# Altium footprint library SKALE_LIB.PcbLib: 52 footprints (part 1 of 4)
Each footprint in its own frame and in the unit in brackets; x right, y up, seen from the top. Pads: shape width x height; smd on the part's side, far side on the other; paste and mask are expansions set on the pad; w line width, h text height; cw(c..) or ccw(c..) is an arc to the next point about the centre after c.
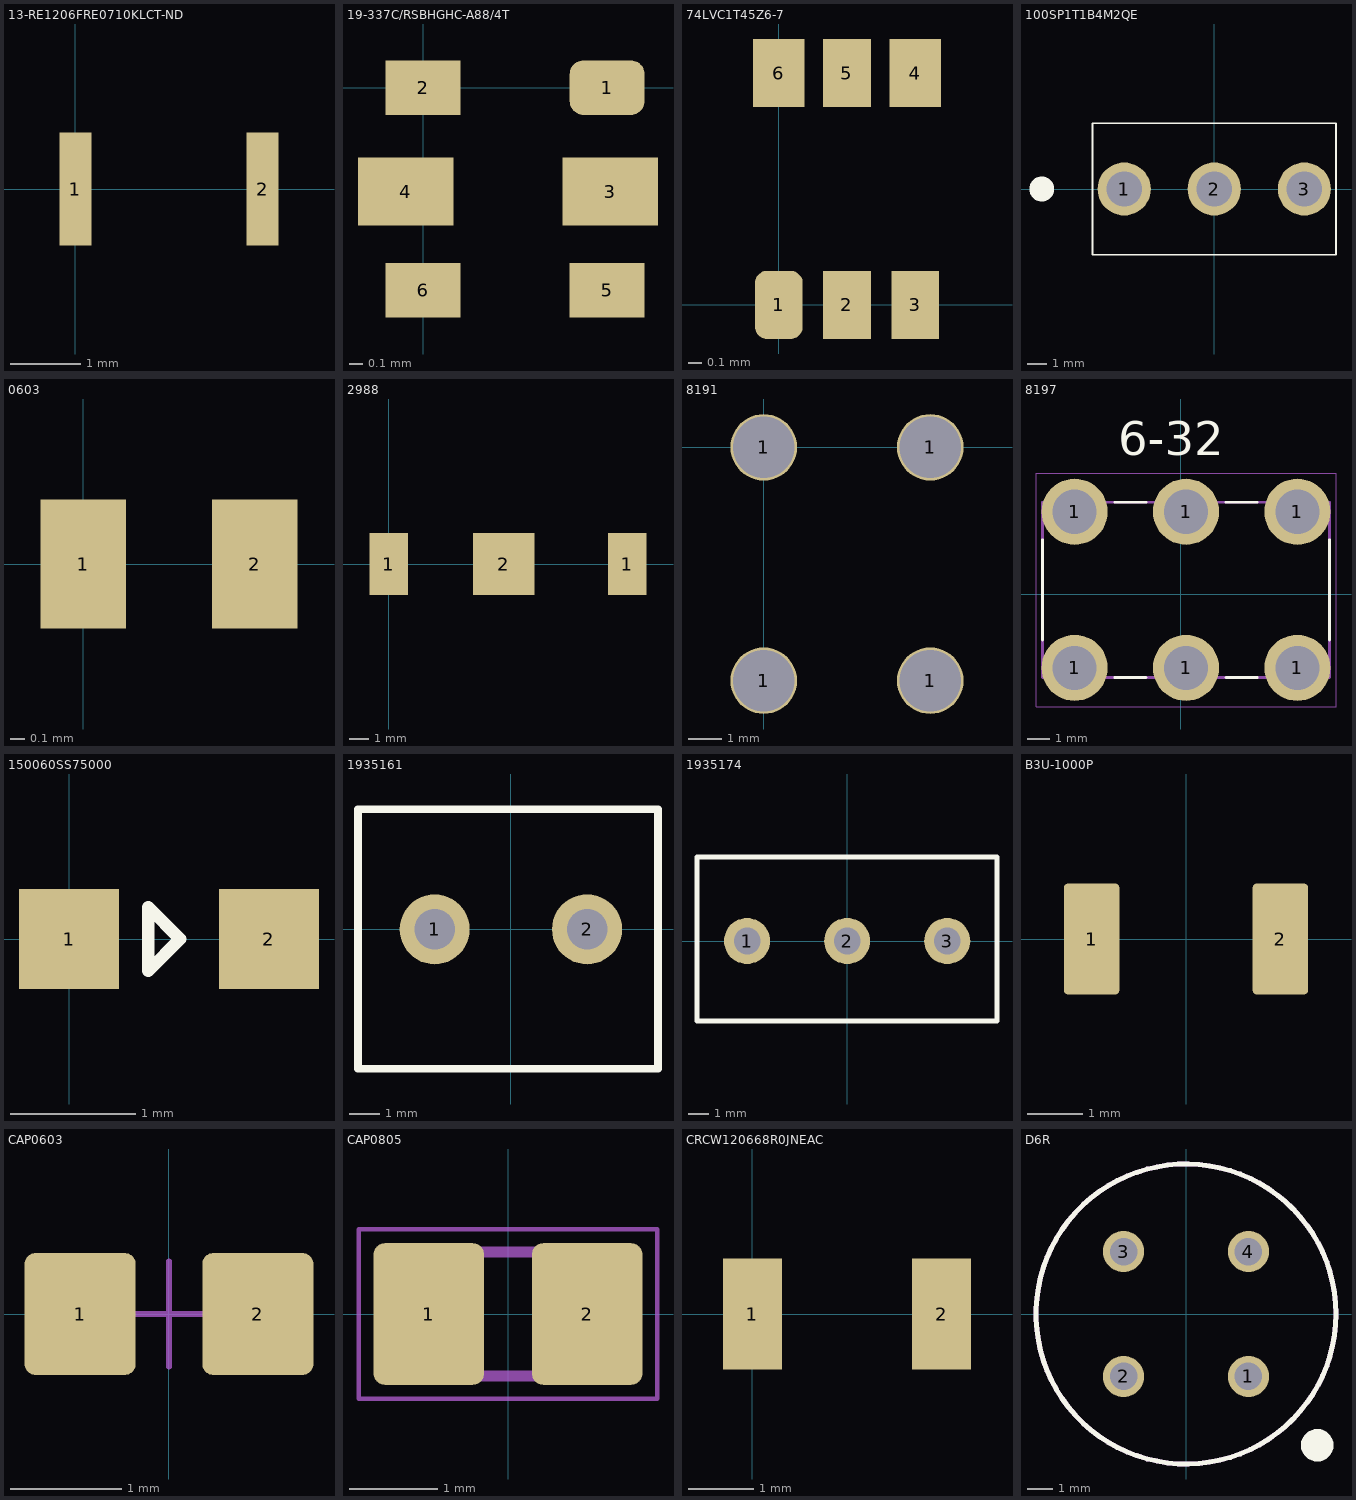
[diagram p0: the footprints below, top view; thin cyan lines are the x and y axes]

## 13-RE1206FRE0710KLCT-ND [mm]
pads (2):
  rect 0.45x1.6 smd: 1(0,0) 2(2.65,0)
3D body "RE1206FRE0710KL.STEP": height 0.65, standoff 0, extent -0.153,-0.8 2.947,0.8

## 19-337C/RSBHGHC-A88/4T [mm]
pads (6):
  rrect50% 0.55x0.4 smd: 1(1.35,0)
  rect 0.55x0.4 smd: 2(0,0) 5(1.35,-1.487) 6(0,-1.487)
  rect 0.7x0.5 smd: 3(1.373,-0.762) 4(-0.127,-0.762)
3D body "4T--3DModel-STEP-56544.STEP": height 0.5, standoff 0, extent -0.127,-1.558 1.473,0.042

## 74LVC1T45Z6-7 [mm]
pads (6):
  rrect50% 0.35x0.5 smd: 1(0,0)
  rect 0.35x0.5 smd: 2(0.5,0) 3(1,0) 5(0.5,1.7)
  rect 0.375x0.5 smd: 4(1,1.7) 6(0,1.7)

## 100SP1T1B4M2QE [mm]
pads (3):
  round 2.775 hole 1.85: 1(-4.7,0) 2(0,0) 3(4.7,0)
Top Overlay:
  circle w0.7: c-9,0 r0.3
  lines w0.1: -6.35,-3.43 -6.35,3.43 6.35,3.43 6.35,-3.43 -6.35,-3.43
3D body "Switch_2.stp": height 29.63, standoff -5.15, extent -6.35,-3.43 6.35,3.43

## 0603 [mm]
pads (2):
  rect 0.6x0.9 smd: 1(0,0) 2(1.2,0)
3D body "EMK107BJ104KAHT.STEP": height 0.78, standoff -0.02, extent -0.19,-0.417 1.41,0.483

## 2988 [mm]
pads (3):
  rect 2x3.2 smd: 1(0,0) 1(12.4,0)
  rect 3.2x3.2 smd: 2(5.969,0)
3D body "BK-885--3DModel-STEP-1.STEP": height 3.17, standoff 0, extent -4.055,-5.969 15.485,6.731

## 8191 [mm]
pads (4):
  round 2 hole 1.85: 1(0,-7.01) 1(0,0) 1(5,-7.01) 1(5,0)
3D body "User Library-Keystone_7693.STEP": height 8.2, standoff -5.1, extent -1.524,-8.119 6.476,1.007

## 8197 [mm]
pads (6):
  round 2.97 hole 1.98: 1(-4.762,-3.316) 1(-4.762,3.694) 1(0.238,-3.316) 1(0.238,3.694) 1(5.238,-3.316) 1(5.238,3.694)
Top Overlay:
  lines w0.127: -6.202,-2.061 -6.202,2.439 ; -2.962,-3.746 -1.562,-3.746 ; -2.962,4.124 -1.562,4.124 ; 2.038,-3.746 3.438,-3.746 ; 2.038,4.124 3.438,4.124 ; 6.678,-2.061 6.678,2.439
  text "6-32" at -2.794,6.223 h1.52
Mechanical 13:
  lines w0.127: -6.202,-3.746 -6.202,4.124 6.678,4.124 6.678,-3.746 -6.202,-3.746
Mechanical 15:
  lines w0.05: -6.497,-5.051 -6.497,5.429 6.973,5.429 6.973,-5.051 -6.497,-5.051

## 150060SS75000 [mm]
pads (2):
  rect 0.8x0.8 smd: 1(0,0) 2(1.6,0)
Top Overlay:
  lines w0.1: 0.635,-0.254 0.635,0.254 0.889,0 0.635,-0.254
3D body "150060AS75000_STP_150060xS75000_rev1.stp": height 0.7, standoff 0, extent -0.038,-0.4 1.562,0.4

## 1935161 [mm] "TERM BLK 2POS SIDE ENTRY 5MM PCB"
pads (2):
  round 2.3 hole 1.325: 1(-2.5,0) 2(2.5,0)
Top Overlay:
  lines w0.254: -5.015,-4.572 4.826,-4.572 4.826,3.938 -5.015,3.938 -5.015,-4.572
3D body "1935161--3DModel-STEP-56544.STEP": height 11.41, standoff -3.49, extent -5.015,-5.062 5.385,3.938

## 1935174 [mm] "5 MM PITCH"
height 11.4
pads (3):
  round 2.3 hole 1.325: 1(-5,0) 2(0,0) 3(5,0)
Top Overlay:
  lines w0.254: 7.485,-4 7.485,4.2 -7.5,4.2 -7.5,-4 7.485,-4 ; 7.485,-4 7.485,-4
3D body "pxc_1935174_03_PT-1-5-3-5-0-H_3D.stp": height 11.41, standoff -3.49, extent -8.085,-4 7.485,5

## B3U-1000P [mm] "TACTILE SWITCH GREY"
pads (2):
  rrect15% 1x2 smd: 1(-1.7,0) 2(1.7,0)
3D body "b3u-1000p.stp": height 1.6, standoff 0, extent -2,-1.25 2,1.25

## CAP0603 [mm]
height 0.55
pads (2):
  rrect20% 1x1.1 smd: 1(-0.8,0) 2(0.8,0)
Mechanical 13:
  lines w0.1: -0.875,-0.475 -0.875,0.475 ; 0.875,-0.475 0.875,0.475
Mechanical 15:
  lines w0.05: -0.475,0 0.475,0 ; 0,-0.475 0,0.475
3D body: height 0.55, standoff 0, extent -0.875,-0.475 -0.525,0.475
3D body: height 0.55, standoff 0, extent 0.525,-0.475 0.875,0.475
3D body "c0603c101j1gactu.stp": height 0.87, standoff 0, extent -0.875,-0.475 0.875,0.475

## CAP0805 [mm]
pads (2):
  rrect20% 1.25x1.6 smd: 1(-0.895,0) 2(0.895,0)
Mechanical 4:
  lines w0.127: -1.07,-0.7 -1.07,0.7 ; -1.07,-0.7 1.07,-0.7 ; -1.07,-0.7 -1.07,0.7 ; -1.07,-0.7 1.07,-0.7 ; -1.07,0.7 1.07,0.7 ; -1.07,0.7 1.07,0.7 ; 1.07,-0.7 1.07,0.7 ; 1.07,-0.7 1.07,0.7
Mechanical 15:
  lines w0.05: -1.685,-0.96 -1.685,0.96 1.685,0.96 1.685,-0.96 -1.685,-0.96
3D body "c0805c100jdgactu.stp": height 1.41, standoff 0.01, extent -1.1,-0.7 1.1,0.75

## CRCW120668R0JNEAC [mm]
pads (2):
  rect 0.9x1.7 smd: 1(0,0) 2(2.9,0)
3D body "CRCW120668R0JNEAC.STEP": height 0.65, standoff 0, extent -0.128,-0.775 2.922,0.775

## D6R [mm]
pads (4):
  round 1.64 hole 1.1: 1(2.5,-2.5) 2(-2.5,-2.5) 3(-2.5,2.5) 4(2.5,2.5)
Top Overlay:
  circle w0.2: c0,0 r6
  circle w0.7: c5.25,-5.25 r0.3
Mechanical 13:
  circle w0.2: c0,0 r6
3D body "User Library-D6R.STEP": height 12.8, standoff -4.5, extent -5.4,-6 6,6